# EAGLE library part TXB0108 (library kwoo)
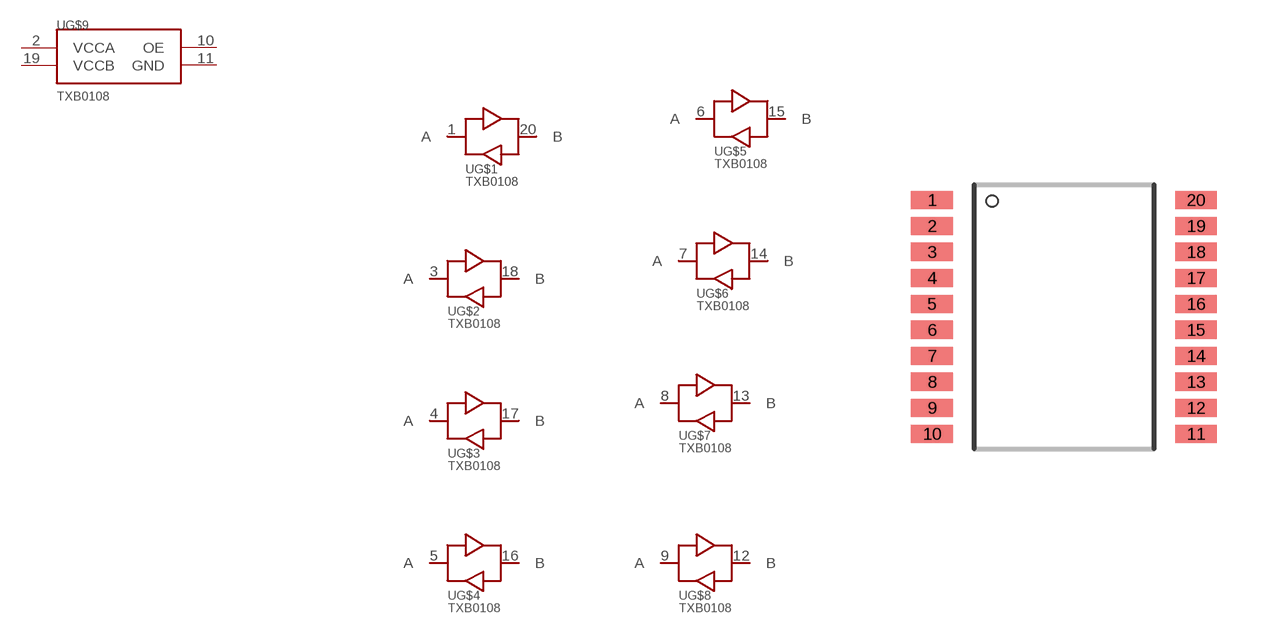
[diagram p40: symbol with the pads of 20-TSSOP; footprint 20-TSSOP]

Designator prefix U; gates G$1=LEVEL_SHIFTER_SINGLE G$2=LEVEL_SHIFTER_SINGLE G$3=LEVEL_SHIFTER_SINGLE G$4=LEVEL_SHIFTER_SINGLE G$5=LEVEL_SHIFTER_SINGLE G$6=LEVEL_SHIFTER_SINGLE G$7=LEVEL_SHIFTER_SINGLE G$8=LEVEL_SHIFTER_SINGLE G$9=TXB0108_CONTROL

## TXB0108  [20-TSSOP]
1  G$1:A
2  G$9:VCCA
3  G$2:A
4  G$3:A
5  G$4:A
6  G$5:A
7  G$6:A
8  G$7:A
9  G$8:A
10  G$9:OE
11  G$9:GND
12  G$8:B
13  G$7:B
14  G$6:B
15  G$5:B
16  G$4:B
17  G$3:B
18  G$2:B
19  G$9:VCCB
20  G$1:B

## Footprint 20-TSSOP (pad centres in mm)
smd 1.05 x 0.45: 1 -3.3,2.925; 2 -3.3,2.275; 3 -3.3,1.625; 4 -3.3,0.975; 5 -3.3,0.325; 6 -3.3,-0.325; 7 -3.3,-0.975; 8 -3.3,-1.625; 9 -3.3,-2.275; 10 -3.3,-2.925; 11 3.3,-2.925; 12 3.3,-2.275; 13 3.3,-1.625; 14 3.3,-0.975; 15 3.3,-0.325; 16 3.3,0.325; 17 3.3,0.975; 18 3.3,1.625; 19 3.3,2.275; 20 3.3,2.925